# Altium schematic symbol library SCH - SENSOR CURRENT - TI INA199B1DCKR.SCHLIB: 1 symbol
Pins are listed as number, name and electrical type; pins without a type are passive.

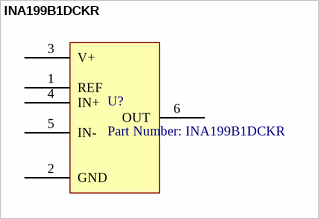
[diagram p0: symbol INA199B1DCKR]

## INA199B1DCKR
designator U?, comment Part Number: INA199B1DCKR
No Description Available; Manufacturer: Texas Instruments; Built_By: EMA_UL_Team; Manufacturer_Part_Number: INA199B1DCKR; Vendor: Texas Instruments; Copyright: Copyright (C) 2018 Accelerated Designs. All rights reserved; RefDes: RefDes; Type: DEV; Value: Value
pins: 1 REF, 2 GND, 3 V+, 4 IN+, 5 IN-, 6 OUT